# EAGLE library part SWITCH-RF (library Pinoccio)
AS222-92 RF-Switch
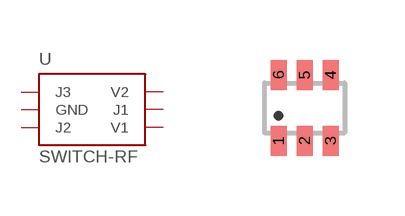
[diagram p21: symbol with the pads of SC70-6; footprint SC70-6]

Designator prefix -

## SWITCH-RF  [SC70-6]
1  J3  out
2  GND
3  J2  out
4  V1  in
5  J1  in
6  V2  in

## Footprint SC70-6 (pad centres in mm)
smd 0.4 x 0.75: 1 -0.65,-0.825; 2 0,-0.825; 3 0.65,-0.825; 4 0.65,0.825; 5 0,0.825; 6 -0.65,0.825